# Altium footprint library Flow_Pump.PcbLib: 52 footprints (part 2 of 4)
Each footprint in its own frame and in the unit in brackets; x right, y up, seen from the top. Pads: shape width x height; smd on the part's side, far side on the other; paste and mask are expansions set on the pad; w line width, h text height; cw(c..) or ccw(c..) is an arc to the next point about the centre after c.
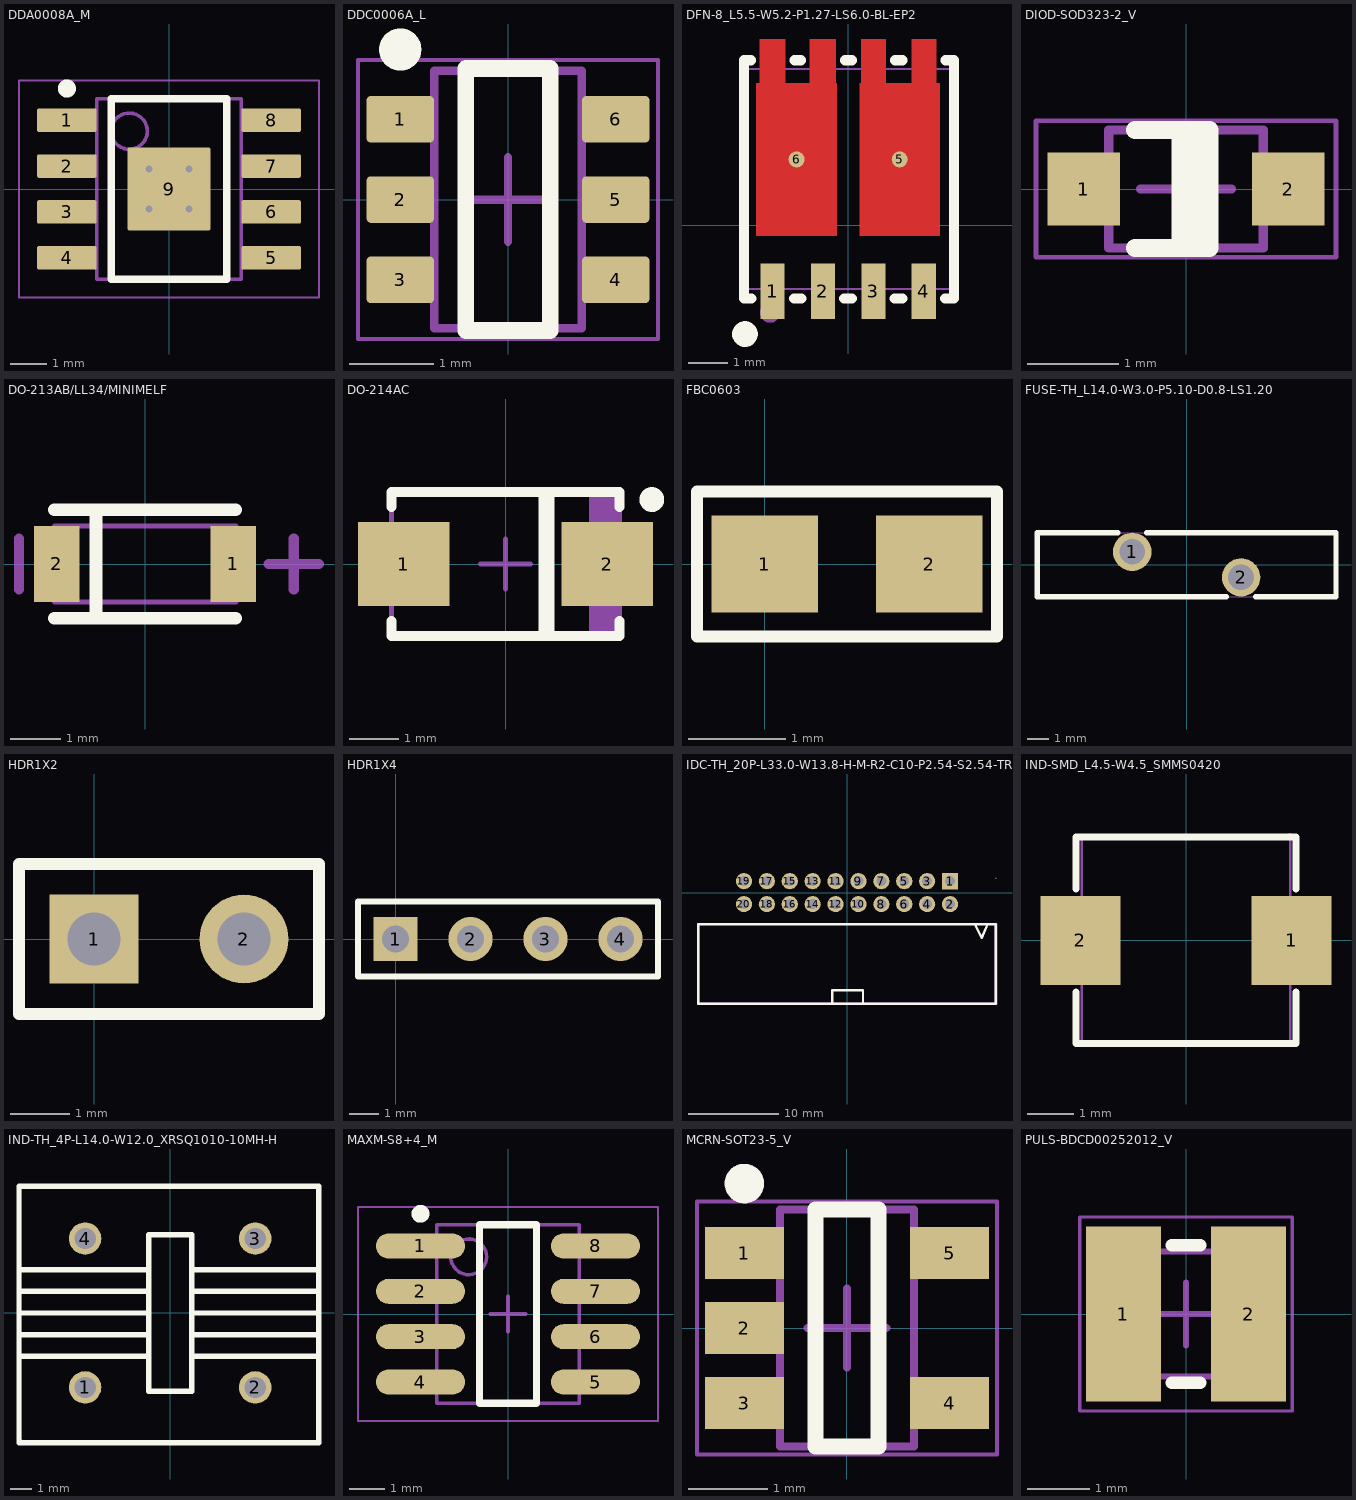
[diagram p1: the footprints below, top view; thin cyan lines are the x and y axes]

## DDA0008A_M [mm] "SOP, 8-Leads, Body 4x5mm, Pitch 1.27mm, Thermal Pad 2.29x2.29mm, IPC Low Density"
height 1.7
pads (9):
  rrect15% 1.65x0.65 smd: 1(-2.825,1.905) 2(-2.825,0.635) 3(-2.825,-0.635) 4(-2.825,-1.905) 5(2.825,-1.905) 6(2.825,-0.635) 7(2.825,0.635) 8(2.825,1.905)
  rrect4% 2.29x2.29 smd: 9(0,0)
via 0.55,-0.55 diameter 0.5 hole 0.2
via -0.55,-0.55 diameter 0.5 hole 0.2
via 0.55,0.55 diameter 0.5 hole 0.2
via -0.55,0.55 diameter 0.5 hole 0.2
Top Overlay:
  circle w0.25: c-2.825,2.78 r0.125
  lines w0.2: -1.6,-2.5 -1.6,2.5 1.6,2.5 1.6,-2.5 -1.6,-2.5
Mechanical 13:
  circle w0.1: c-1.1,1.6 r0.5
  lines w0.1: -2,-2.5 -2,2.5 2,2.5 2,-2.5 -2,-2.5
Mechanical 15:
  lines w0.05: -4.15,-3 -4.15,3 4.15,3 4.15,-3 -4.15,-3
  lines w0.1: -0.5,0 0.5,0 ; 0,-0.5 0,0.5
3D body "DDA0008.stp": height 1.55, standoff 0, extent -2.978,-2.451 2.978,2.451

## DDC0006A_L [mm] "SOT23, 6-Leads, Body 3.05x1.75mm, Pitch 0.95mm, IPC High Density"
height 1.1
pads (6):
  rrect18% 0.8x0.55 smd: 1(-1.275,0.95) 2(-1.275,0) 3(-1.275,-0.95) 4(1.275,-0.95) 5(1.275,0) 6(1.275,0.95)
Top Overlay:
  circle w0.25: c-1.275,1.775 r0.125
  lines w0.2: -0.5,-1.55 0.5,-1.55 0.5,1.55 -0.5,1.55 -0.5,-1.55
Mechanical 13:
  lines w0.1: -0.875,-1.525 -0.875,1.525 0.875,1.525 0.875,-1.525 -0.875,-1.525
Mechanical 15:
  lines w0.05: -1.775,-1.65 -1.775,1.65 1.775,1.65 1.775,-1.65 -1.775,-1.65
  lines w0.1: -0.5,0 0.5,0 ; 0,-0.5 0,0.5
3D body "DDC0006A.stp": height 0.9, standoff -0.02, extent -1.434,-1.485 1.434,1.485

## DFN-8_L5.5-W5.2-P1.27-LS6.0-BL-EP2 [mil] "TO-252"
height 214.96
pads (6):
  rect 24x55 smd paste+2: 1(-75,-65.35) 2(-25,-65.35) 3(25,-65.35) 4(75,-65.35)
  round 15.97 smd: 5(51.18,65.35) 6(-51.18,65.35)
Top Layer:
  region: 11.26,-10.14 11.26,140.85 12.79,140.85 12.79,184.86 37.36,184.86 37.36,140.85 62.95,140.85 62.95,184.86 87.52,184.86 87.52,140.85 91.1,140.85 91.1,-10.14
  region: -91.1,-10.14 -91.1,140.85 -87.52,140.85 -87.52,184.86 -62.44,184.86 -62.44,140.85 -37.87,140.85 -37.87,184.86 -12.28,184.86 -12.28,140.85 -11.26,140.85 -11.26,-10.14
Top Overlay:
  lines w10: -96.62,163.75 -103.5,163.75 -103.5,-72.45 -96.1,-72.45 ; -53.9,-72.45 -46.1,-72.45 ; -53.34,163.75 -46.97,163.75 ; -3.9,-72.45 3.9,-72.45 ; -3.18,163.75 3.69,163.75 ; 46.1,-72.45 53.9,-72.45 ; 46.46,163.75 53.85,163.75 ; 96.1,-72.45 103.5,-72.45 ; 96.62,163.75 105,163.75 105,-72.45
  lines w15.7: -97.5,-107.95 cw(c-102.4,-107.9) -97.5,-107.85
Mechanical 2:
  circle w10: c-77.56,-86.61 r5
Mechanical 6:
  lines w2: -102.36,-63.39 102.36,-63.39 102.36,155.12 -102.36,155.12 -102.36,-63.39
Mechanical 8:
  region: -100,-73.22 -100,-74.2 -101.38,-75.59 -103.34,-75.59 -104.72,-74.2 -104.72,-73.22 -104.72,-72.25 -103.34,-70.86 -101.38,-70.86 -100,-72.25 -100,-73.22
Mechanical 9:
  region: 67.13,-51.57 82.87,-51.57 82.87,-73.22 67.13,-73.22
  region: 17.13,-51.57 32.87,-51.57 32.87,-73.22 17.13,-73.22
  region: -32.87,-51.57 -17.13,-51.57 -17.13,-73.22 -32.87,-73.22
  region: -82.87,-51.57 -67.13,-51.57 -67.13,-73.22 -82.87,-73.22
  region: -85.63,-10.14 -85.63,140.85 -83.07,140.85 -83.07,164.96 -67.32,164.96 -67.32,140.85 -33.07,140.85 -33.07,164.96 -17.32,164.96 -17.32,140.87 -11.81,140.87 -11.81,-10.14
  region: 11.81,-10.14 11.81,140.85 16.93,140.85 16.93,164.96 32.68,164.96 32.68,140.85 66.93,140.85 66.93,164.96 82.68,164.96 82.68,140.85 85.63,140.85 85.63,-10.14

## DIOD-SOD323-2_V [mm] "SOD-323, 2-Leads, Body 1.7x1.3mm, Lead Span 2.5mm"
height 1.2
pads (2):
  rect 0.8x0.8 smd: 1(-1.125,0) 2(1.125,0)
Top Overlay:
  rectangle: -0.157,-0.65 0.263,0.65
  lines w0.2: -0.56,-0.65 0.26,-0.65 0.26,0.65 -0.56,0.65
Mechanical 13:
  lines w0.1: -0.85,-0.65 0.85,-0.65 0.85,0.65 -0.85,0.65 -0.85,-0.65
Mechanical 15:
  lines w0.05: -1.65,-0.75 1.65,-0.75 1.65,0.75 -1.65,0.75 -1.65,-0.75
  lines w0.1: -0.5,0 0.5,0 ; 0,-0.5 0,0.5
3D body "SOD323.stp": height 1.13, standoff 0.02, extent -1.212,-0.65 1.306,0.65

## DO-213AB/LL34/MINIMELF [mm]
pads (2):
  rect 0.9x1.5 smd: 1(1.75,0) 2(-1.75,0)
Top Overlay:
  lines w0.254: -1.8,-1.075 1.8,-1.075 ; -1.8,1.075 1.8,1.075 ; -0.975,-1.075 -0.975,1.075
Mechanical 13:
  lines w0.1: -1.8,-0.75 -1.8,0.75 1.8,0.75 1.8,-0.75 -1.8,-0.75
Mechanical 15:
  lines w0.203: -2.5,-0.5 -2.5,0.5 ; 2.45,0 3.45,0 ; 2.95,-0.5 2.95,0.5

## DO-214AC [mm] "Molded Diode, 2-Leads, Body 4.3x2.7mm, IPC Medium Density"
height 2.438
pads (2):
  rect 1.85x1.7 smd: 1(-2.05,0) 2(2.05,0)
Top Overlay:
  circle w0.25: c2.95,1.3 r0.125
  lines w0.2: -2.3,-1.15 -2.3,-1.45 2.3,-1.45 2.3,-1.15 ; -2.3,1.15 -2.3,1.45 2.3,1.45 2.3,1.15 ; 0.762,-1.397 0.762,1.397 ; 0.889,-1.397 0.889,1.397
Mechanical 13:
  rectangle: 1.681,-1.45 2.3,1.45
  lines w0.1: -2.3,-1.45 -2.3,1.45 2.3,1.45 2.3,-1.45 -2.3,-1.45
Mechanical 15:
  lines w0.1: -0.5,0 0.5,0 ; 0,-0.5 0,0.5
3D body: height 2.44, standoff 0, extent -2.3,-1.45 2.3,1.45

## FBC0603 [mm]
height 0.033
pads (2):
  rect 1.1x1 smd: 1(0,0) 2(1.7,0)
Top Overlay:
  lines w0.127: -0.7,-0.75 2.4,-0.75 2.4,0.75 -0.7,0.75 -0.7,-0.75

## FUSE-TH_L14.0-W3.0-P5.10-D0.8-LS1.20 [mm]
pads (2):
  round 1.8 hole 1.2 paste+0 mask+0.05: 1(-2.55,0.6) 2(2.55,-0.6)
Top Overlay:
  lines w0.254: -3.233,1.5 -7,1.5 -7,-1.5 1.866,-1.5 ; -1.866,1.5 7,1.5 7,-1.5 3.233,-1.5
Mechanical 6:
  lines w0.051: -7,-1.5 7,-1.5 7,1.5 -7,1.5 -7,-1.5
Mechanical 8:
  region: -6.94,1.5 -6.94,1.475 -6.975,1.44 -7.025,1.44 -7.06,1.475 -7.06,1.5 -7.06,1.525 -7.025,1.56 -6.975,1.56 -6.94,1.525 -6.94,1.5
Mechanical 9:
  region: -2.15,0.6 -2.15,0.52 -2.211,0.373 -2.323,0.261 -2.47,0.2 -2.629,0.2 -2.776,0.261 -2.889,0.373 -2.95,0.52 -2.95,0.6 -2.95,0.68 -2.889,0.827 -2.776,0.939 -2.629,1 -2.47,1 -2.323,0.939 -2.211,0.827 -2.15,0.68 -2.15,0.6
  region: 2.95,-0.6 2.95,-0.679 2.889,-0.826 2.776,-0.939 2.629,-1 2.47,-1 2.323,-0.939 2.211,-0.826 2.15,-0.679 2.15,-0.6 2.15,-0.52 2.211,-0.373 2.323,-0.261 2.47,-0.2 2.629,-0.2 2.776,-0.261 2.889,-0.373 2.95,-0.52 2.95,-0.6

## HDR1X2 [mm] "Connector; Header; 2 Position"
height 0.75
pads (2):
  rect 1.5x1.5 hole 0.9: 1(0,0)
  round 1.5 hole 0.9: 2(2.54,0)
Top Overlay:
  lines w0.2: -1.27,-1.27 3.81,-1.27 3.81,1.27 -1.27,1.27 -1.27,-1.27

## HDR1X4 [mm] "Connector; Header; 4 Position"
height 0.75
pads (4):
  rect 1.5x1.5 hole 0.9: 1(0,0)
  round 1.5 hole 0.9: 2(2.54,0) 3(5.08,0) 4(7.62,0)
Top Overlay:
  lines w0.2: -1.27,-1.27 -1.27,1.27 8.89,1.27 8.89,-1.27 -1.27,-1.27

## IDC-TH_20P-L33.0-W13.8-H-M-R2-C10-P2.54-S2.54-TR [mm]
pads (20):
  rect 1.8x1.8 hole 1.1: 1(11.43,1.27)
  round 1.8 hole 1.1: 2(11.43,-1.27) 3(8.89,1.27) 4(8.89,-1.27) 5(6.35,1.27) 6(6.35,-1.27) 7(3.81,1.27) 8(3.81,-1.27) 9(1.27,1.27) 10(1.27,-1.27) 11(-1.27,1.27) 12(-1.27,-1.27) 13(-3.81,1.27) 14(-3.81,-1.27) 15(-6.35,1.27) 16(-6.35,-1.27) 17(-8.89,1.27) 18(-8.89,-1.27) 19(-11.43,1.27) 20(-11.43,-1.27)
Top Overlay:
  lines w0.254: -16.51,-3.525 -16.51,-12.325 16.51,-12.325 16.51,-3.52 -16.51,-3.52 ; -1.639,-12.325 -1.639,-10.84 1.78,-10.84 1.78,-12.325 ; 14.178,-3.52 14.94,-5.01 15.6,-3.52
Mechanical 6:
  region: -16.383,-3.525 -16.383,-12.325 -16.383,-12.378 -16.457,-12.452 -16.563,-12.452 -16.637,-12.378 -16.637,-12.325 -16.637,-3.525 -16.637,-3.472 -16.563,-3.398 -16.457,-3.398 -16.383,-3.472
  region: -16.51,-12.198 16.51,-12.198 16.563,-12.198 16.637,-12.272 16.637,-12.378 16.563,-12.452 16.51,-12.452 -16.51,-12.452 -16.563,-12.452 -16.637,-12.378 -16.637,-12.272 -16.563,-12.198
  region: 16.383,-12.325 16.383,-3.52 16.383,-3.467 16.457,-3.393 16.563,-3.393 16.637,-3.467 16.637,-3.52 16.637,-12.325 16.637,-12.378 16.563,-12.452 16.457,-12.452 16.383,-12.378
Mechanical 15:
  region: 16.57,1.59 16.569,1.614 16.534,1.648 16.486,1.648 16.451,1.614 16.45,1.59 16.451,1.566 16.486,1.532 16.534,1.532 16.569,1.566
  region: 11.11,1.59 11.75,1.59 11.75,0.95 11.11,0.95
  region: -11.75,-0.95 -11.11,-0.95 -11.11,-1.59 -11.75,-1.59
  region: -11.75,1.59 -11.11,1.59 -11.11,0.95 -11.75,0.95
  region: -9.21,-0.95 -8.57,-0.95 -8.57,-1.59 -9.21,-1.59
  region: -9.21,1.59 -8.57,1.59 -8.57,0.95 -9.21,0.95
  region: -6.67,-0.95 -6.03,-0.95 -6.03,-1.59 -6.67,-1.59
  region: -6.67,1.59 -6.03,1.59 -6.03,0.95 -6.67,0.95
  region: -4.13,-0.95 -3.49,-0.95 -3.49,-1.59 -4.13,-1.59
  region: -4.13,1.59 -3.49,1.59 -3.49,0.95 -4.13,0.95
  region: -1.59,-0.95 -0.95,-0.95 -0.95,-1.59 -1.59,-1.59
  region: -1.59,1.59 -0.95,1.59 -0.95,0.95 -1.59,0.95
  region: 0.95,-0.95 1.59,-0.95 1.59,-1.59 0.95,-1.59
  region: 0.95,1.59 1.59,1.59 1.59,0.95 0.95,0.95
  region: 3.49,-0.95 4.13,-0.95 4.13,-1.59 3.49,-1.59
  region: 3.49,1.59 4.13,1.59 4.13,0.95 3.49,0.95
  region: 6.03,-0.95 6.67,-0.95 6.67,-1.59 6.03,-1.59
  region: 6.03,1.59 6.67,1.59 6.67,0.95 6.03,0.95
  region: 8.57,-0.95 9.21,-0.95 9.21,-1.59 8.57,-1.59
  region: 8.57,1.59 9.21,1.59 9.21,0.95 8.57,0.95
  region: 11.11,-0.95 11.75,-0.95 11.75,-1.59 11.11,-1.59
  lines w0.051: -16.51,-12.323 -16.51,-3.523 16.51,-3.523 16.51,-12.323 -16.51,-12.323

## IND-SMD_L4.5-W4.5_SMMS0420 [mm]
pads (2):
  rect 1.724x1.92 smd: 1(2.278,0) 2(-2.278,0)
Top Overlay:
  lines w0.152: -2.376,-1.112 -2.376,-2.226 2.376,-2.226 2.376,-1.112 ; -2.376,1.112 -2.376,2.226 2.376,2.226 2.376,1.112
Mechanical 15:
  region: -1.575,-0.75 -1.575,0.75 -2.375,0.75 -2.375,-0.75
  region: 1.575,-0.75 1.575,0.75 2.375,0.75 2.375,-0.75
  region: 2.31,2.25 2.309,2.274 2.274,2.307 2.226,2.307 2.191,2.274 2.19,2.25 2.191,2.226 2.226,2.192 2.274,2.192 2.309,2.226 2.31,2.25
  lines w0.051: -2.25,-2.25 2.25,-2.25 2.25,2.25 -2.25,2.25 -2.25,-2.25

## IND-TH_4P-L14.0-W12.0_XRSQ1010-10MH-H [mm]
pads (4):
  round 1.524 hole 1 paste+0 mask+0.05: 1(-4,-3.5) 2(4,-3.5) 3(4,3.5) 4(-4,3.5)
Top Overlay:
  lines w0.254: -7.112,0 -1.016,0 ; -6.985,-2.032 -1.016,-2.032 ; -6.985,-1.016 -1.016,-1.016 ; -6.985,1.016 -1.016,1.016 ; -6.985,2.032 -1.016,2.032 ; 1.016,-2.032 6.985,-2.032 ; 1.016,-1.016 6.858,-1.016 ; 1.016,0 6.731,0 6.985,0 ; 1.016,1.016 6.985,1.016 ; 1.016,2.032 6.985,2.032 ; -7.112,-6.096 -7.112,5.969 6.985,5.969 6.985,-6.096 -7.112,-6.096 ; -1.016,-3.683 -1.016,3.683 1.016,3.683 1.016,-3.683 -1.016,-3.683
Mechanical 6:
  lines w0.051: -7,-6 7,-6 7,6 -7,6 -7,-6
Mechanical 8:
  region: -6.94,-6 -6.94,-6.025 -6.975,-6.06 -7.025,-6.06 -7.06,-6.025 -7.06,-6 -7.06,-5.975 -7.025,-5.94 -6.975,-5.94 -6.94,-5.975 -6.94,-6
Mechanical 9:
  region: 4.3,-3.5 4.3,-3.56 4.254,-3.67 4.17,-3.754 4.06,-3.8 3.94,-3.8 3.83,-3.754 3.746,-3.67 3.7,-3.56 3.7,-3.5 3.7,-3.44 3.746,-3.33 3.83,-3.246 3.94,-3.2 4.06,-3.2 4.17,-3.246 4.254,-3.33 4.3,-3.44 4.3,-3.5
  region: -3.7,-3.5 -3.7,-3.56 -3.746,-3.67 -3.83,-3.754 -3.94,-3.8 -4.06,-3.8 -4.17,-3.754 -4.254,-3.67 -4.3,-3.56 -4.3,-3.5 -4.3,-3.44 -4.254,-3.33 -4.17,-3.246 -4.06,-3.2 -3.94,-3.2 -3.83,-3.246 -3.746,-3.33 -3.7,-3.44 -3.7,-3.5
  region: 4.3,3.5 4.3,3.44 4.254,3.33 4.17,3.246 4.06,3.2 3.94,3.2 3.83,3.246 3.746,3.33 3.7,3.44 3.7,3.5 3.7,3.56 3.746,3.67 3.83,3.754 3.94,3.8 4.06,3.8 4.17,3.754 4.254,3.67 4.3,3.56 4.3,3.5
  region: -3.7,3.5 -3.7,3.44 -3.746,3.33 -3.83,3.246 -3.94,3.2 -4.06,3.2 -4.17,3.246 -4.254,3.33 -4.3,3.44 -4.3,3.5 -4.3,3.56 -4.254,3.67 -4.17,3.754 -4.06,3.8 -3.94,3.8 -3.83,3.754 -3.746,3.67 -3.7,3.56 -3.7,3.5

## MAXM-S8+4_M [mm] "SOIC, 8-Leads, Body 4.9x3.9mm, Pitch 1.27mm, IPC Low Density"
height 1.75
pads (8):
  oval 2.5x0.7 smd: 1(-2.45,1.905) 2(-2.45,0.635) 3(-2.45,-0.635) 4(-2.45,-1.905) 5(2.45,-1.905) 6(2.45,-0.635) 7(2.45,0.635) 8(2.45,1.905)
Top Overlay:
  circle w0.25: c-2.45,2.805 r0.125
  lines w0.2: -0.8,-2.5 0.8,-2.5 0.8,2.5 -0.8,2.5 -0.8,-2.5
Mechanical 13:
  circle w0.1: c-1.1,1.6 r0.5
  lines w0.1: -2,-2.5 2,-2.5 2,2.5 -2,2.5 -2,-2.5
Mechanical 15:
  lines w0.05: -4.2,-3 4.2,-3 4.2,3 -4.2,3 -4.2,-3
  lines w0.1: -0.5,0 0.5,0 ; 0,-0.5 0,0.5
3D body: height 1.75, standoff 0.1, extent -2,-2.5 2,2.5

## MCRN-SOT23-5_V [mm] "SOT-23, 5-Leads, Body 3x1.7mm, Pitch 0.95mm"
height 1.45
pads (5):
  rect 1x0.66 smd: 1(-1.3,0.95) 2(-1.3,0) 3(-1.3,-0.95) 4(1.3,-0.95) 5(1.3,0.95)
Top Overlay:
  circle w0.25: c-1.3,1.83 r0.125
  lines w0.2: -0.4,-1.5 0.4,-1.5 0.4,1.5 -0.4,1.5 -0.4,-1.5
Mechanical 13:
  lines w0.1: -0.85,-1.5 -0.85,1.5 0.85,1.5 0.85,-1.5 -0.85,-1.5
Mechanical 15:
  lines w0.05: -1.9,-1.6 -1.9,1.6 1.9,1.6 1.9,-1.6 -1.9,-1.6
  lines w0.1: -0.5,0 0.5,0 ; 0,-0.5 0,0.5
3D body "SOT95P280X145-5L.step": height 1.45, standoff 0, extent -1.5,-1.5 1.5,1.5

## PULS-BDCD00252012_V [mm] "SMD, 2 Leads, Body 2.5 x 2.0mm"
height 1.2
pads (2):
  rect 1.2x2.8 smd: 1(-1,0) 2(1,0)
Top Overlay:
  lines w0.2: -0.225,-1.1 0.225,-1.1 ; -0.225,1.1 0.225,1.1
Mechanical 13:
  lines w0.1: -1.25,-1 1.25,-1 1.25,1 -1.25,1 -1.25,-1
Mechanical 15:
  lines w0.05: -1.7,-1.55 1.7,-1.55 1.7,1.55 -1.7,1.55 -1.7,-1.55
  lines w0.1: -0.5,0 0.5,0 ; 0,-0.5 0,0.5
3D body "Ind_Murata_DFE252012F-4R7M=P2_eec.STEP": height 1.2, standoff 0, extent -1.25,-1 1.25,1